# Altium integrated library Altium_Screen.IntLib: 3 symbols
Pins are listed as number, name and electrical type; pins without a type are passive.

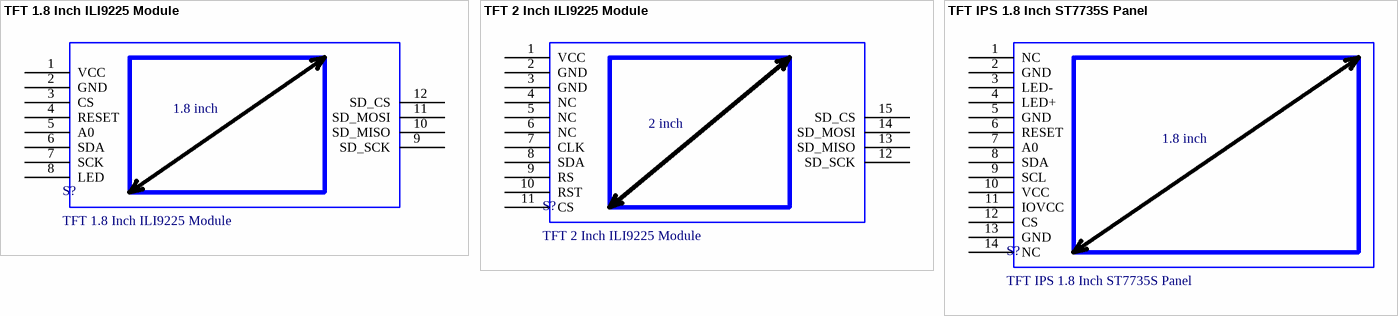
[diagram p0: symbols TFT 1.8 Inch ILI9225 Module to TFT IPS 1.8 Inch ST7735S Panel]

## TFT 1.8 Inch ILI9225 Module
designator S?
footprint TFT_1.8_MODULE
footprint TFT_1.8_MODULE - WITHOUT_HOLE
pins: 1 VCC, 2 GND, 3 CS, 4 RESET, 5 A0, 6 SDA, 7 SCK, 8 LED, 9 SD_SCK, 10 SD_MISO, 11 SD_MOSI, 12 SD_CS
text: 1.8 inch

## TFT 2 Inch ILI9225 Module
designator S?
footprint TFT_2_MODULE
pins: 1 VCC, 2 GND, 3 GND, 4 NC, 5 NC, 6 NC, 7 CLK, 8 SDA, 9 RS, 10 RST, 11 CS, 12 SD_SCK, 13 SD_MISO, 14 SD_MOSI, 15 SD_CS
text: 2 inch

## TFT IPS 1.8 Inch ST7735S Panel
designator S?
footprint TFT_IPS 1.8 Inch ST7735S Panel
pins: 1 NC, 2 GND, 3 LED-, 4 LED+, 5 GND, 6 RESET, 7 A0, 8 SDA, 9 SCL, 10 VCC, 11 IOVCC, 12 CS, 13 GND, 14 NC
text: 1.8 inch